# Altium integrated library 电源开关.IntLib: 10 symbols
Pins are listed as number, name and electrical type; pins without a type are passive.

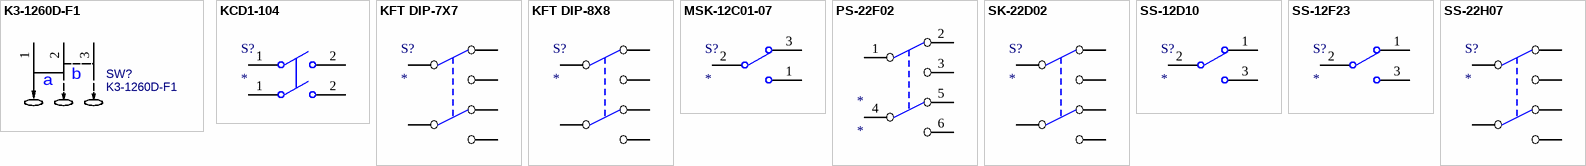
[diagram p0: symbols K3-1260D-F1 to SS-22H07]

## K3-1260D-F1
designator SW?
BOM_Manufacturer: Korean Hroparts Elec; Contributor: LCSC; BOM_Supplier: LCSC; BOM_Supplier Part: C223843; BOM_Manufacturer Part: K3-1260D-F1; BOM_JLCPCB Part Class: Extended Part; spicePre: S; spiceSymbolName: K3-1260D-F1
footprint SK-3260D-01-L3
pins: 1, 2, 3
text: a; b

## KCD1-104
designator S?
footprint KCD1-104-W
pins: 1, 1, 2, 2

## KFT DIP-7X7
designator S?
footprint KFT DIP-7X7
pins: 1, 2, 3, 4, 5, 6

## KFT DIP-8X8
designator S?
footprint KFT DIP-8X8
pins: 1, 2, 3, 4, 5, 6

## MSK-12C01-07
designator S?
footprint MSK-12C01-07
pins: 1, 2, 3

## PS-22F02
designator *
footprint PS-22F02 (双排6脚自锁开关)
pins: 1, 2, 3, 4, 5, 6

## SK-22D02
designator S?
footprint SK-22D02
pins: 1, 2, 3, 4, 5, 6

## SS-12D10
designator S?
footprint SS-12D10
pins: 1, 2, 3

## SS-12F23
designator S?
footprint SS-12F23
pins: 1, 2, 3

## SS-22H07
designator S?
footprint SS-22H07-G2
footprint SS-22H07-G3
footprint SS-22H07-G4
footprint SS-22H07-G5
footprint SS-22H07-G6
footprint SS-22H07-G7
footprint SS-22H07-G8
footprint SS-22H07-G9
pins: 1, 2, 3, 4, 5, 6